# Altium footprint library RCLAMP0544T.PcbLib: 1 footprints
Each footprint in its own frame and in the unit in brackets; x right, y up, seen from the top. Pads: shape width x height; smd on the part's side, far side on the other; paste and mask are expansions set on the pad; w line width, h text height; cw(c..) or ccw(c..) is an arc to the next point about the centre after c.
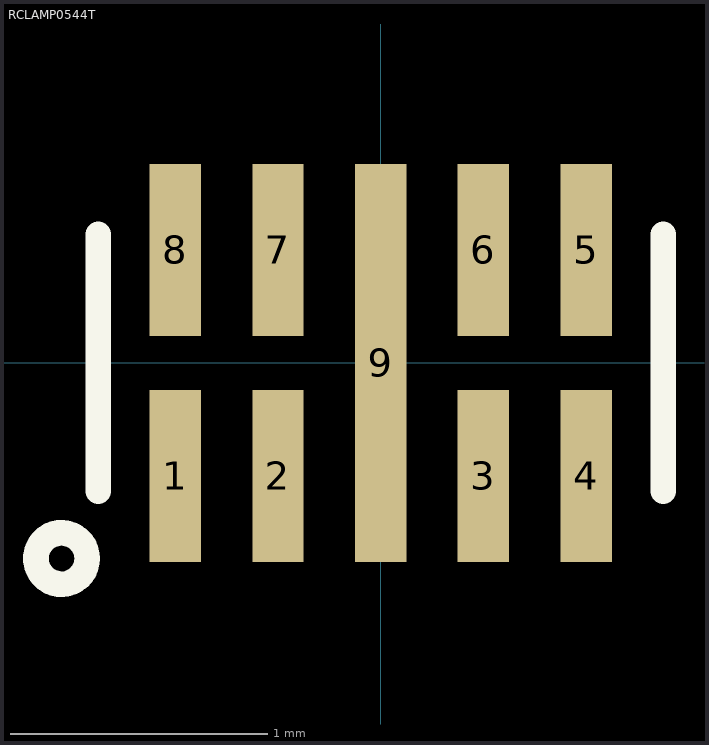
[diagram p0: the footprint, top view; thin cyan lines are the x and y axes]

## RCLAMP0544T [mm]
pads (9):
  rect 0.2x0.67 smd: 1(-0.8,-0.44) 2(-0.4,-0.44) 3(0.4,-0.44) 4(0.8,-0.44) 5(0.8,0.44) 6(0.4,0.44) 7(-0.4,0.44) 8(-0.8,0.44)
  rect 0.2x1.55 smd: 9(0,0)
Top Overlay:
  circle w0.1: c-1.243,-0.762 r0.1
  lines w0.1: -1.1,-0.5 -1.1,0.5 ; 1.1,-0.5 1.1,0.5
3D body: height 0.4, standoff 0, extent -1.143,-0.635 1.143,0.635